# Altium footprint library MyLib.PcbLib: 59 footprints (part 2 of 4)
Each footprint in its own frame and in the unit in brackets; x right, y up, seen from the top. Pads: shape width x height; smd on the part's side, far side on the other; paste and mask are expansions set on the pad; w line width, h text height; cw(c..) or ccw(c..) is an arc to the next point about the centre after c.
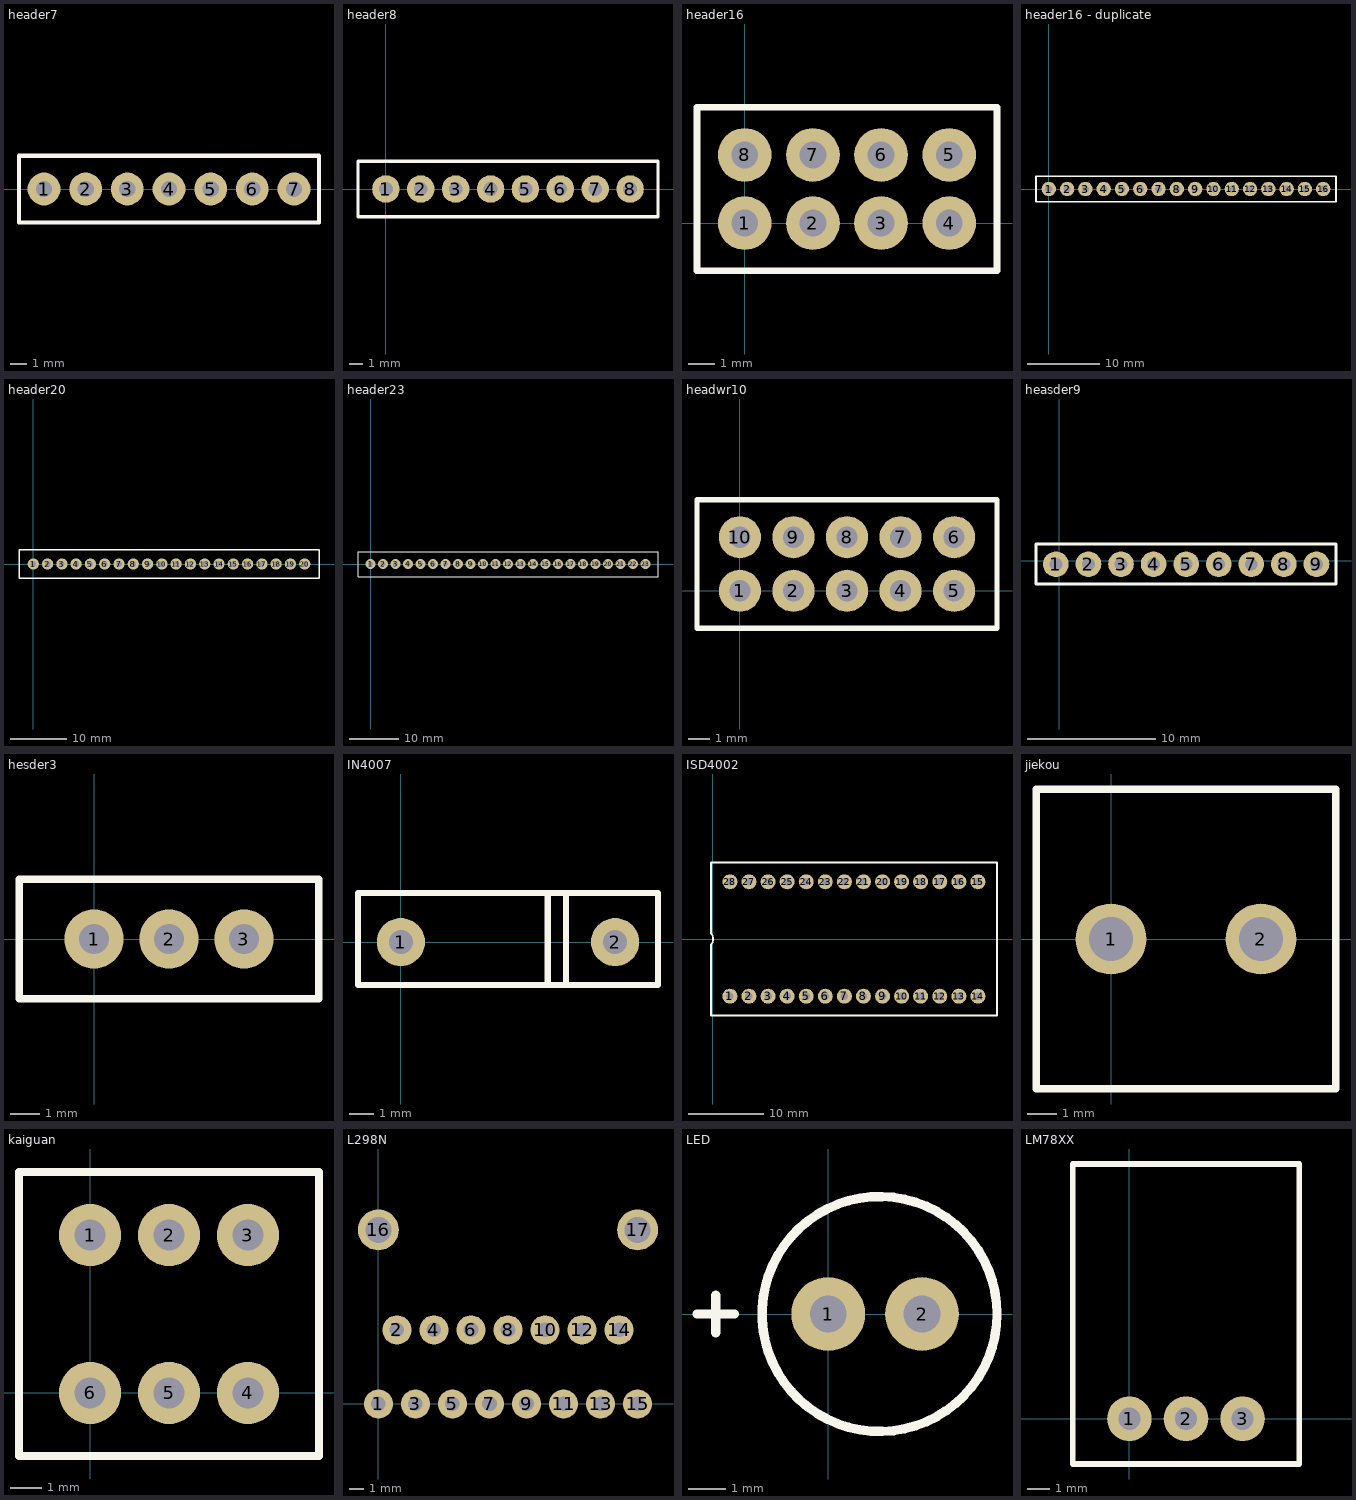
[diagram p1: the footprints below, top view; thin cyan lines are the x and y axes]

## header7 [mm]
pads (7):
  round 2 hole 1: 1(2.54,0) 2(5.08,0) 3(7.62,0) 4(10.16,0) 5(12.7,0) 6(15.24,0) 7(17.78,0)
Top Overlay:
  lines w0.254: 1.016,-2.032 1.016,2.032 19.304,2.032 19.304,-2.032 1.016,-2.032

## header8 [mm]
pads (8):
  round 2 hole 1: 1(0,0) 2(2.54,0) 3(5.08,0) 4(7.62,0) 5(10.16,0) 6(12.7,0) 7(15.24,0) 8(17.78,0)
Top Overlay:
  lines w0.254: -2.032,-2.032 -2.032,2.032 16.764,2.032 19.812,2.032 19.812,-2.032 16.764,-2.032 -2.032,-2.032

## header16 [mm]
pads (8):
  round 2 hole 1: 1(0,0) 2(2.54,0) 3(5.08,0) 4(7.62,0) 5(7.62,2.54) 6(5.08,2.54) 7(2.54,2.54) 8(0,2.54)
Top Overlay:
  lines w0.254: -1.778,-1.778 -1.778,4.318 -0.508,4.318 9.398,4.318 9.398,-1.778 -1.778,-1.778

## header16 - duplicate [mm]
pads (16):
  round 2 hole 1: 1(0,0) 2(2.54,0) 3(5.08,0) 4(7.62,0) 5(10.16,0) 6(12.7,0) 7(15.24,0) 8(17.78,0) 9(20.32,0) 10(22.86,0) 11(25.4,0) 12(27.94,0) 13(30.48,0) 14(33.02,0) 15(35.56,0) 16(38.1,0)
Top Overlay:
  lines w0.254: -1.778,-1.778 39.878,-1.778 39.878,1.778 -1.778,1.778 -1.778,-0.508 -1.778,-1.778

## header20 [mm]
pads (20):
  round 2 hole 1: 1(0,0) 2(2.54,0) 3(5.08,0) 4(7.62,0) 5(10.16,0) 6(12.7,0) 7(15.24,0) 8(17.78,0) 9(20.32,0) 10(22.86,0) 11(25.4,0) 12(27.94,0) 13(30.48,0) 14(33.02,0) 15(35.56,0) 16(38.1,0) 17(40.64,0) 18(43.18,0) 19(45.72,0) 20(48.26,0)
Top Overlay:
  lines w0.254: -2.54,-2.54 -2.54,-1.016 -2.54,2.54 50.8,2.54 50.8,-2.54 49.022,-2.54 -2.54,-2.54

## header23 [mm]
pads (23):
  round 2 hole 1 unplated: 1(0,0) 2(2.54,0) 3(5.08,0) 4(7.62,0) 5(10.16,0) 6(12.7,0) 7(15.24,0) 8(17.78,0) 9(20.32,0) 10(22.86,0) 11(25.4,0) 12(27.94,0) 13(30.48,0) 14(33.02,0) 15(35.56,0) 16(38.1,0) 17(40.64,0) 18(43.18,0) 19(45.72,0) 20(48.26,0) 21(50.8,0) 22(53.34,0) 23(55.88,0)
Top Overlay:
  lines w0.254: -2.54,-2.54 58.42,-2.54 58.42,2.54 -2.54,2.54 -2.54,-2.54

## headwr10 [mm]
pads (10):
  round 2 hole 1: 1(0,0) 2(2.54,0) 3(5.08,0) 4(7.62,0) 5(10.16,0) 6(10.16,2.54) 7(7.62,2.54) 8(5.08,2.54) 9(2.54,2.54) 10(0,2.54)
Top Overlay:
  lines w0.254: -2.032,-1.778 12.192,-1.778 12.192,4.318 -2.032,4.318 -2.032,-1.778

## heasder9 [mm]
pads (9):
  round 2 hole 1: 1(-0.254,-0.254) 2(2.286,-0.254) 3(4.826,-0.254) 4(7.366,-0.254) 5(9.906,-0.254) 6(12.446,-0.254) 7(14.986,-0.254) 8(17.526,-0.254) 9(20.066,-0.254)
Top Overlay:
  lines w0.254: -1.803,-1.803 -1.092,-1.803 3.095,-1.803 21.59,-1.803 21.59,1.321 -1.803,1.321 -1.803,-0.533 -1.803,-1.803

## hesder3 [mm]
pads (3):
  round 2 hole 1: 1(0,0) 2(2.54,0) 3(5.08,0)
Top Overlay:
  lines w0.254: -2.54,-2.032 7.62,-2.032 7.62,2.032 -2.032,2.032 -2.54,2.032 -2.54,-2.032

## IN4007 [mm]
pads (2):
  round 2 hole 1: 1(0,0) 2(8.89,0)
Top Overlay:
  lines w0.254: 6.096,-1.778 6.096,2.032 ; 6.858,-1.778 6.858,2.032 ; -1.778,-1.778 10.668,-1.778 10.668,2.032 -0.762,2.032 -1.778,2.032 -1.778,-1.778

## ISD4002 [mm]
pads (28):
  round 2 hole 1: 1(2.286,-7.62) 2(4.826,-7.62) 3(7.366,-7.62) 4(9.906,-7.62) 5(12.446,-7.62) 6(14.986,-7.62) 7(17.526,-7.62) 8(20.066,-7.62) 9(22.606,-7.62) 10(25.146,-7.62) 11(27.686,-7.62) 12(30.226,-7.62) 13(32.766,-7.62) 14(35.306,-7.62) 15(35.306,7.62) 16(32.766,7.62) 17(30.226,7.62) 18(27.686,7.62) 19(25.146,7.62) 20(22.606,7.62) 21(20.066,7.62) 22(17.526,7.62) 23(14.986,7.62) 24(12.446,7.62) 25(9.906,7.62) 26(7.366,7.62) 27(4.826,7.62) 28(2.286,7.62)
Top Overlay:
  lines w0.254: -0.254,-10.16 37.846,-10.16 37.846,10.16 -0.254,10.16 -0.254,0.762 cw(c-1.016,0) -0.254,-0.762 -0.254,-10.16

## jiekou [mm]
pads (2):
  round 2.4 hole 1.5: 1(0,0) 2(5.08,0)
Top Overlay:
  lines w0.254: -2.54,-5.08 -2.54,5.08 1.778,5.08 7.62,5.08 7.62,2.286 7.62,-2.286 7.62,-5.08 -2.54,-5.08

## kaiguan [mm]
pads (6):
  round 2 hole 1: 1(0,5.08) 2(2.54,5.08) 3(5.08,5.08) 4(5.08,0) 5(2.54,0) 6(0,0)
Top Overlay:
  lines w0.254: -2.286,-2.032 7.366,-2.032 7.366,7.112 -2.286,7.112 -2.286,5.08 -2.286,-2.032

## L298N [mm]
pads (17):
  round 2 hole 1: 1(0,0) 2(1.27,5.08) 3(2.54,0) 4(3.81,5.08) 5(5.08,0) 6(6.35,5.08) 7(7.62,0) 8(8.89,5.08) 9(10.16,0) 10(11.43,5.08) 11(12.7,0) 12(13.97,5.08) 13(15.24,0) 14(16.51,5.08) 15(17.78,0)
  round 2.8 hole 1.8: 16(0,11.938) 17(17.78,11.938)

## LED [mm]
pads (2):
  round 2 hole 1: 1(0,0) 2(2.54,0)
Top Overlay:
  circle w0.254: c1.389,0 r3.183
  lines w0.254: -3.556,0 -2.54,0 ; -3.048,-0.508 -3.048,0.508

## LM78XX [mm]
pads (3):
  round 2 hole 1: 1(0,0) 2(2.54,0) 3(5.08,0)
Top Overlay:
  lines w0.254: -2.54,-2.032 7.62,-2.032 7.62,11.43 -2.54,11.43 -2.54,-2.032